# EAGLE library part TPS54331 (library e-Lib-IC-Power)
TPS54331 3-A, 28-V Input, Step Down DC-DC Converter With Eco-mode The TPS54331 device is a 28-V, 3-A nonsynchronous buck converter that integrates a low RDS(on) high-side MOSFET. To increase efficiency at light loads, a pulse skipping Eco-mode feature is automatically activated. Furthermore, the 1-μA shutdown supply-current allows the device to be used in battery-powered applications. Current mode control with internal slope compensation simplifies the external compensation calculations and reduces component count while allowing the use of ceramic output capacitors. A resistor divider programs the hysteresis of the input undervoltage lockout. An overvoltage transient protection circuit limits voltage overshoots during startup and transient conditions. A cycle-by-cycle current-limit scheme, frequency foldback and thermal shutdown protect the device and the load in the event of an overload condition. The TPS54331 device is available in an 8-pin SOIC package and 8-pin SO PowerPAD package that have been internally optimized to improve thermal performance. Datasheet: TPS54331 <https://www.ti.com/lit/ds/symlink/tps54331.pdf?ts=1591817365296&ref_url=https://www.google.com/>
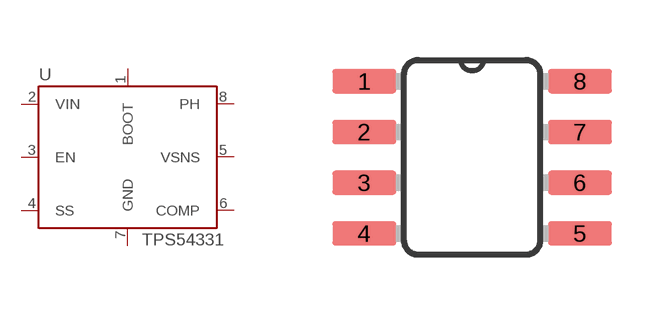
[diagram p1: symbol with the pads of SOIC8; footprint SOIC8]

Designator prefix U

## TPS54331  [SOIC8]
1  BOOT  out
2  VIN  pwr
3  EN  in
4  SS  in
5  VSNS  in
6  COMP  out
7  GND  pwr
8  PH  out

## Footprint SOIC8 (pad centres in mm)
smd 1.6 x 0.61: 1 -2.7,1.905; 2 -2.7,0.635; 3 -2.7,-0.635; 4 -2.7,-1.905; 5 2.7,-1.905; 6 2.7,-0.635; 7 2.7,0.635; 8 2.7,1.905